# EAGLE library part AC-DC-VIPER06 (library LITTLEBITS140915)
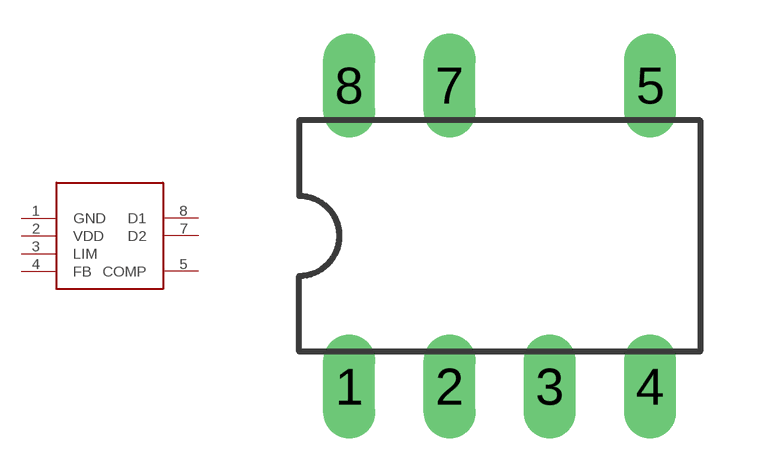
[diagram p69: symbol with the pads of AC-DC-VIPER06; footprint AC-DC-VIPER06]

Designator prefix -

## AC-DC-VIPER06  [AC-DC-VIPER06]
1  GND
2  VDD
3  LIM
4  FB
5  COMP
7  D2
8  D1

## Footprint AC-DC-VIPER06 (pad centres in mm)
drill 0.813 long: 1 -3.81,-3.81; 2 -1.27,-3.81; 3 1.27,-3.81; 4 3.81,-3.81; 5 3.81,3.81; 7 -1.27,3.81; 8 -3.81,3.81